# Altium schematic symbol library schlib1.schlib: 11 symbols
Pins are listed as number, name and electrical type; pins without a type are passive.

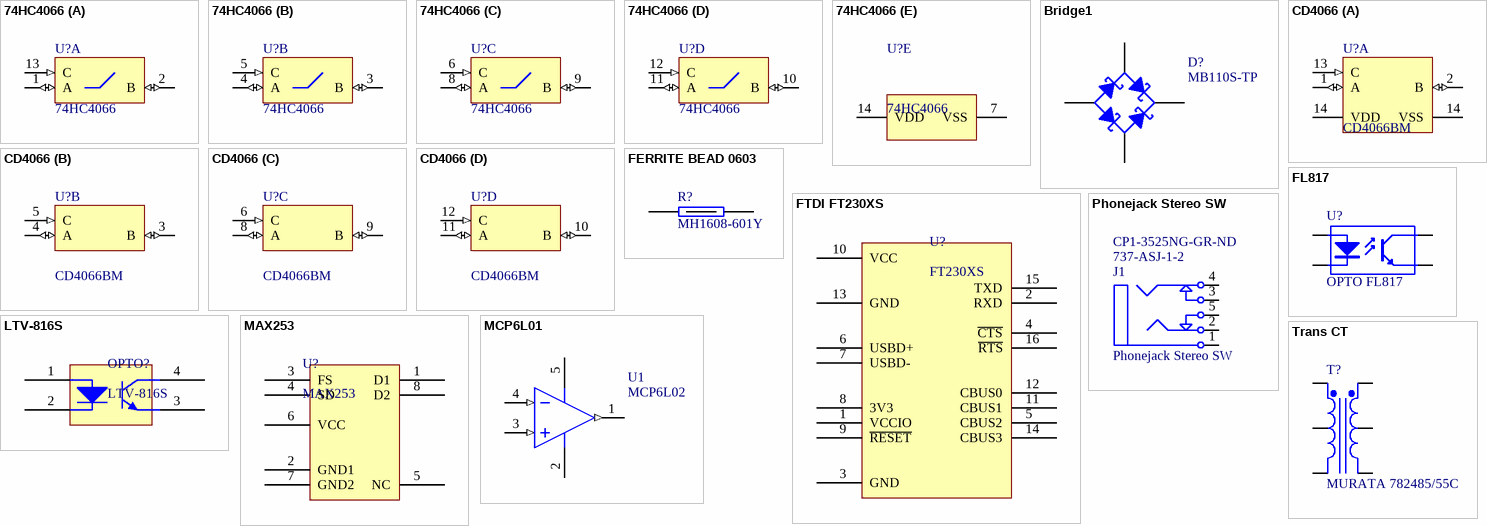
[diagram p0: symbols 74HC4066 to Trans CT]

## 74HC4066
designator U?
Quadruple Bilateral Analog Switch
footprint D014_N (SOIC, 14-Leads, Body 8.7x3.9mm, Pitch 1.27mm, IPC Medium Density)
footprint D014_L (SOIC, 14-Leads, Body 8.7x3.9mm, Pitch 1.27mm, IPC High Density)
footprint D014_M (SOIC, 14-Leads, Body 8.7x3.9mm, Pitch 1.27mm, IPC Low Density)
3D model D014 (14-Pin Small Outline Integrated Circuit 1.27 mm Pitch)
footprint DIP-16 (DIP; 16 Leads; Row Spacing 7.62 mm; Pitch 2.54 mm)
part A pins: 1 A (io), 2 B (io), 13 C (in)
part B pins: 3 B (io), 4 A (io), 5 C (in)
part C pins: 6 C (in), 8 A (io), 9 B (io)
part D pins: 10 B (io), 11 A (io), 12 C (in)
part E pins: 7 VSS (power), 14 VDD (power)

## Bridge1
designator D?, comment MB110S-TP
Full Wave Schottky Diode Bridge; Published: 8-Jun-2000; LatestRevisionDate: 29-May-2009; LatestRevisionNote: Sch pins A & K swapped.; DatasheetVersion: E2732B; PackageReference: D-38; Publisher: Altium Limited; PackageDescription: Bridge Rectifier; 4 Terminals; Body 9.4 x 9.4 mm (typ); Pitch 5.08 mm; Value: MB110S-TP
simulation model BRIDGE (Spice Subcircuit)
footprint TO-269AA
pins: 2 K, 2 C, 3 A, 4 C

## CD4066
designator U?, comment CD4066BM
Quadruple Bilateral Analog Switch; Mouser Part Number: 595-CD4066BM
footprint D014_N (SOIC, 14-Leads, Body 8.7x3.9mm, Pitch 1.27mm, IPC Medium Density)
footprint D014_L (SOIC, 14-Leads, Body 8.7x3.9mm, Pitch 1.27mm, IPC High Density)
footprint D014_M (SOIC, 14-Leads, Body 8.7x3.9mm, Pitch 1.27mm, IPC Low Density)
3D model D014 (14-Pin Small Outline Integrated Circuit 1.27 mm Pitch)
part A pins: 1 A (io), 2 B (io), 13 C (in), 14 VDD, 14 VSS
part B pins: 3 B (io), 4 A (io), 5 C (in)
part C pins: 6 C (in), 8 A (io), 9 B (io)
part D pins: 10 B (io), 11 A (io), 12 C (in)

## FERRITE BEAD 0603
designator R?, comment MH1608-601Y
FERRITE BEAD 0603 BOURNS MH1608-601Y; Value: MH1608-601Y
footprint RES (3D) - 0603
pins: 1, 2

## FL817
designator U?, comment OPTO FL817
4-Pin Phototransistor Optocoupler
footprint DIP_4
pins: 1 A "Anode", 2 K "Cathode", 3 E "Emitter", 4 C "Collector"

## FTDI FT230XS
designator U?, comment FT230XS
FTDI FT230XS USB - UART
pins: 1 VCCIO, 2 RXD, 3 GND, 4 ~{CTS}, 5 CBUS2, 6 USBD+, 7 USBD-, 8 3V3, 9 ~{RESET}, 10 VCC, 11 CBUS1, 12 CBUS0, 13 GND, 14 CBUS3, 15 TXD, 16 ~{RTS}

## LTV-816S
designator OPTO?
Transistor Output Optocoupler; Supplier 1: Mouser; Supplier 2: Digi-Key; Supplier Part Number 1: 859-LTV-816S; Supplier Part Number 2: 160-1361-5-ND
footprint S-DIP-B8 (Shrink DIP; 8 Stub Leads; Row Spacing 2.28 mm; Pitch 0.5 mm)
pins: 1, 2, 3, 4

## MAX253
designator U?
Value: MAX253
pins: 1 D1, 2 GND1, 3 FS, 4 SD, 5 NC, 6 VCC, 7 GND2, 8 D2

## MCP6L01
designator U1, comment MCP6L02
MCP6L01; Value: MCP6L02
footprint SOT23-5AL (SOT23, 5-Leads, Body 2.9x1.6mm, Pitch 0.95mm, Lead Span 2.8mm, IPC High Density)
pins: 1 OUTA (out), 2 GND (power), 3 INA+ (in), 4 INA- (in), 5 V+ (power)

## Phonejack Stereo SW
designator J1  Supplier Part Number 1: 737-ASJ-1-2  Supplier Part Number 2: CP1-3525NG-GR-ND
3-Conductor Jack with 2 break contacts (normals) and 2 auxiliary make contacts; Published: 5-Jan-2004; LatestRevisionDate: 17-Dec-2003; LatestRevisionNote: PCB Footprint replaced.; DatasheetDocument: 07-Mar-2000; Publisher: Altium Limited; ComponentLink1Description: Manufacturer Link; ComponentLink1URL: http://domino.kycon.com/internet/Products.html; Supplier 1: Mouser; Supplier 2: Digi-Key
signal-integrity model Connector
footprint 3.5MM pcb mouNt
pins: 1, 2, 3, 4, 5

## Trans CT
designator T?, comment MURATA 782485/55C
Center-Tapped Transformer (Coupled Inductor Model); Published: 8-Jun-2000; LatestRevisionDate: 17-Jul-2002; LatestRevisionNote: Re-released for DXP Platform.; PackageReference: TRF_5; Publisher: Altium Limited; PackageDescription: Transformer; 5 Leads; Value: MURATA 782485/55C
footprint TRF_5 (Transformer; 5 Leads)
simulation model TRANSFORMER (Transformer)
pins: 1 Pri+, 2 PriCT, 3 Pri-, 4 Sec-, 5 SecCT, 6 Sec+